# Altium footprint library КОТ-С.PcbLib: 65 footprints (part 4 of 5)
Each footprint in its own frame and in the unit in brackets; x right, y up, seen from the top. Pads: shape width x height; smd on the part's side, far side on the other; paste and mask are expansions set on the pad; w line width, h text height; cw(c..) or ccw(c..) is an arc to the next point about the centre after c.
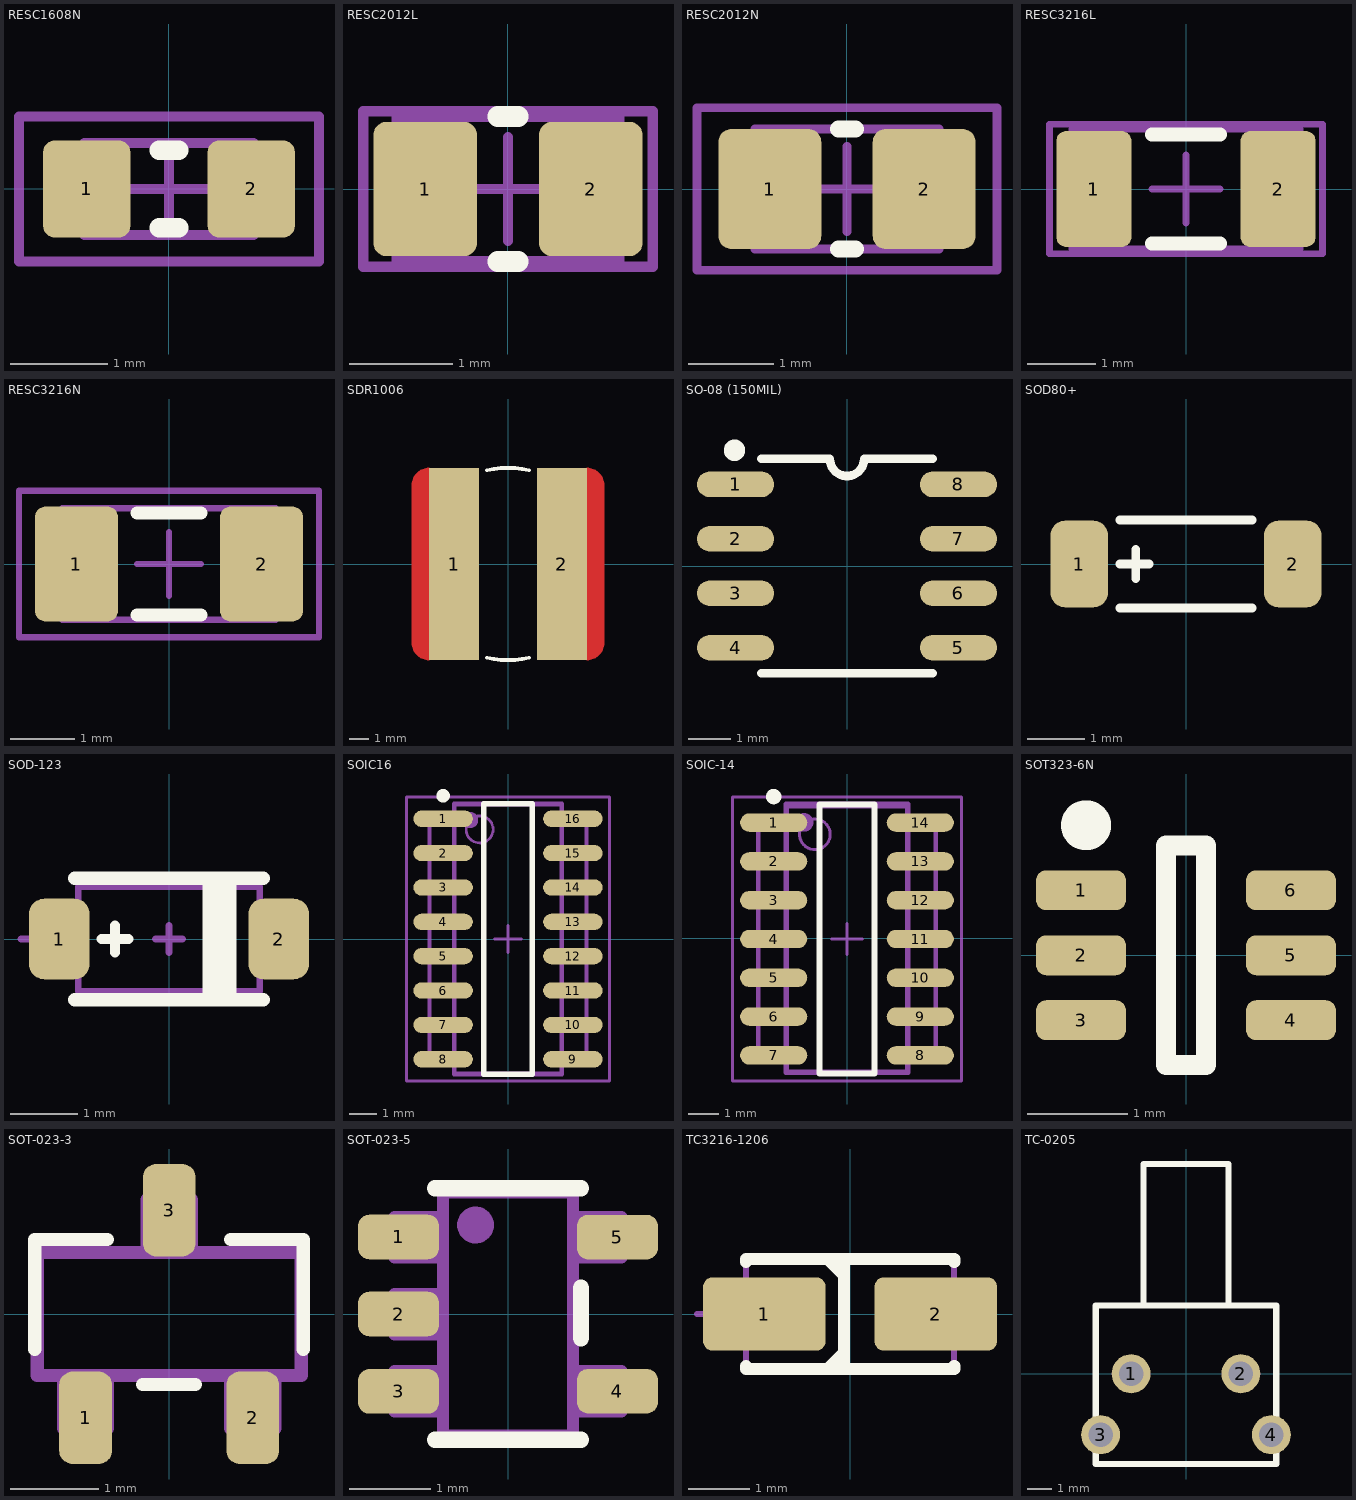
[diagram p3: the footprints below, top view; thin cyan lines are the x and y axes]

## RESC1608N [mm] "Chip Resistor, Body 1.6x0.8mm, IPC Medium Density"
height 0.6
pads (2):
  rrect25% 0.9x1 smd mask+0.075: 1(-0.85,0) 2(0.85,0)
Top Overlay:
  lines w0.2: -0.1,-0.4 0.1,-0.4 ; -0.1,0.4 0.1,0.4
Mechanical 5:
  lines w0.1: -0.875,-0.475 0.875,-0.475 0.875,0.475 -0.875,0.475 -0.875,-0.475
  text ".Designator" at -0.725,-0.175 h0.8
Mechanical 13:
  lines w0.1: -0.85,-0.475 0.85,-0.475 0.85,0.475 -0.85,0.475 -0.85,-0.475
Mechanical 15:
  lines w0.1: -0.475,0 0.475,0 ; 0,-0.475 0,0.475 ; -1.55,-0.75 1.55,-0.75 1.55,0.75 -1.55,0.75 -1.55,-0.75
3D body "RESC1608.STEP": height 0.5, standoff 0, extent -0.8,-0.4 0.8,0.4

## RESC2012L [mm] "Chip Resistor, Body 2.0x1.3mm, IPC High Density"
height 0.65
pads (2):
  rrect25% 1x1.3 smd mask+0.075: 1(-0.8,0) 2(0.8,0)
Top Overlay:
  lines w0.2: -0.1,-0.7 0.1,-0.7 ; -0.1,0.7 0.1,0.7
Mechanical 13:
  lines w0.1: -1.075,-0.7 1.075,-0.7 1.075,0.7 -1.075,0.7 -1.075,-0.7
Mechanical 15:
  lines w0.1: -0.5,0 0.5,0 ; 0,-0.5 0,0.5 ; -1.4,-0.75 1.4,-0.75 1.4,0.75 -1.4,0.75 -1.4,-0.75
3D body "RESC2012.STEP": height 0.5, standoff 0, extent -1,-0.6 1,0.6

## RESC2012N [mm] "Chip Resistor, Body 2.0x1.3mm, IPC Medium Density"
height 0.65
pads (2):
  rrect25% 1.2x1.4 smd mask+0.075: 1(-0.9,0) 2(0.9,0)
Top Overlay:
  lines w0.2: -0.1,-0.7 0.1,-0.7 ; -0.1,0.7 0.1,0.7
Mechanical 13:
  lines w0.1: -1.075,-0.7 1.075,-0.7 1.075,0.7 -1.075,0.7 -1.075,-0.7
Mechanical 15:
  lines w0.1: -0.5,0 0.5,0 ; 0,-0.5 0,0.5 ; -1.75,-0.95 1.75,-0.95 1.75,0.95 -1.75,0.95 -1.75,-0.95
3D body "RESC2012.STEP": height 0.5, standoff 0, extent -1,-0.6 1,0.6

## RESC3216L [mm] "Chip Resistor, Body 3.2x1.6mm, IPC High Density"
height 0.71
pads (2):
  rrect25% 1.1x1.7 smd mask+0.075: 1(-1.35,0) 2(1.35,0)
Top Overlay:
  lines w0.2: -0.5,-0.8 0.5,-0.8 ; -0.5,0.8 0.5,0.8
Mechanical 13:
  lines w0.1: -1.675,-0.875 -1.675,0.875 1.675,0.875 1.675,-0.875 -1.675,-0.875
Mechanical 15:
  lines w0.1: -0.5,0 0.5,0 ; 0,-0.5 0,0.5 ; -2,-0.95 -2,0.95 2,0.95 2,-0.95 -2,-0.95
3D body "RESC3216.STEP": height 0.6, standoff 0, extent -1.6,-0.8 1.6,0.8

## RESC3216N [mm] "Chip Resistor, Body 3.2x1.6mm, IPC Medium Density"
height 0.71
pads (2):
  rrect25% 1.3x1.8 smd mask+0.075: 1(-1.45,0) 2(1.45,0)
Top Overlay:
  lines w0.2: -0.5,-0.8 0.5,-0.8 ; -0.5,0.8 0.5,0.8
Mechanical 13:
  lines w0.1: -1.675,-0.875 -1.675,0.875 1.675,0.875 1.675,-0.875 -1.675,-0.875
Mechanical 15:
  lines w0.1: -0.5,0 0.5,0 ; 0,-0.5 0,0.5 ; -2.35,-1.15 -2.35,1.15 2.35,1.15 2.35,-1.15 -2.35,-1.15
3D body "RESC3216.STEP": height 0.6, standoff 0, extent -1.6,-0.8 1.6,0.8

## SDR1006 [mm]
pads (2):
  rect 2.6x10 smd paste-0.025: 1(-2.8,0) 2(2.8,0)
Top Layer:
  region: 4.1,5 4.189,5 4.363,4.965 4.526,4.898 4.674,4.799 4.799,4.674 4.898,4.526 4.965,4.363 5,4.189 5,4.1 5,-4.1 5,-4.189 4.965,-4.363 4.898,-4.526 4.799,-4.674 4.674,-4.799 4.526,-4.898 4.363,-4.965 4.189,-5 4.1,-5
  region: -4.1,5 -4.189,5 -4.363,4.965 -4.526,4.898 -4.674,4.799 -4.799,4.674 -4.898,4.526 -4.965,4.363 -5,4.189 -5,4.1 -5,-4.1 -5,-4.189 -4.965,-4.363 -4.898,-4.526 -4.799,-4.674 -4.674,-4.799 -4.526,-4.898 -4.363,-4.965 -4.189,-5 -4.1,-5
Top Overlay:
  lines w0.2: -1.095,-4.879 ccw(c0,0) 1.095,-4.879 ; -1.095,4.879 cw(c0,0) 1.095,4.879
Top Paste:
  region: 4.075,4.975 4.161,4.975 4.33,4.941 4.489,4.875 4.633,4.78 4.755,4.658 4.85,4.514 4.916,4.355 4.95,4.186 4.95,4.1 4.95,-4.1 4.95,-4.186 4.916,-4.355 4.85,-4.514 4.755,-4.658 4.633,-4.78 4.489,-4.875 4.33,-4.941 4.161,-4.975 4.075,-4.975
  region: -4.075,4.975 -4.161,4.975 -4.33,4.941 -4.489,4.875 -4.633,4.78 -4.755,4.658 -4.85,4.514 -4.916,4.355 -4.95,4.186 -4.95,4.1 -4.95,-4.1 -4.95,-4.186 -4.916,-4.355 -4.85,-4.514 -4.755,-4.658 -4.633,-4.78 -4.489,-4.875 -4.33,-4.941 -4.161,-4.975 -4.075,-4.975
Top Solder:
  region: 4.1,5.1 4.198,5.1 4.392,5.062 4.574,4.986 4.737,4.877 4.877,4.737 4.986,4.574 5.062,4.392 5.1,4.198 5.1,4.1 5.1,-4.1 5.1,-4.198 5.062,-4.392 4.986,-4.574 4.877,-4.737 4.737,-4.877 4.574,-4.986 4.392,-5.062 4.198,-5.1 4.1,-5.1
  region: -4.1,5.1 -4.198,5.1 -4.392,5.062 -4.574,4.986 -4.737,4.877 -4.877,4.737 -4.986,4.574 -5.062,4.392 -5.1,4.198 -5.1,4.1 -5.1,-4.1 -5.1,-4.198 -5.062,-4.392 -4.986,-4.574 -4.877,-4.737 -4.737,-4.877 -4.574,-4.986 -4.392,-5.062 -4.198,-5.1 -4.1,-5.1
3D body "SDR1006.stp": height 5.85, standoff 0.02, extent -4.9,-4.89 4.9,4.89

## SO-08 (150MIL) [mm]
pads (8):
  oval 1.8x0.6 smd: 1(-2.6,1.905) 2(-2.6,0.635) 3(-2.6,-0.635) 4(-2.6,-1.905) 5(2.6,-1.905) 6(2.6,-0.635) 7(2.6,0.635) 8(2.6,1.905)
Top Overlay:
  circle w0.25: c-2.625,2.7 r0.125
  lines w0.2: -2,-2.5 2,-2.5 ; -2,2.5 -0.4,2.5 ccw(c0,2.5) 0.4,2.5 2,2.5
3D body "SOIC127P600-8.STEP": height 1.7, standoff 0, extent -3,-2.54 3,2.54

## SOD80+ [mm]
pads (2):
  rrect50% 1x1.5 smd: 1(-1.85,0) 2(1.85,0)
Top Overlay:
  lines w0.15: -1.143,-0.762 1.143,-0.762 ; -1.143,0 -0.635,0 ; -1.143,0.762 1.143,0.762 ; -0.869,-0.254 -0.869,0.254
3D body "DO-213AC (SOD80) +.stp": height 1.49, standoff 0, extent -1.85,-0.749 1.85,0.749

## SOD-123 [mm] "SM LED; 2 Flat Leads"
height 1.3
pads (2):
  rrect50% 0.9x1.2 smd paste-0.025 mask+0.07: 1(-1.63,0) 2(1.63,0)
Top Overlay:
  region: 1,0.8 0.5,0.8 0.5,-0.8 1,-0.8
  lines w0.15: -1,0 -0.6,0 ; -0.8,-0.2 -0.8,0.2
  lines w0.2: -1.4,-0.9 1.4,-0.9 ; -1.4,0.9 1.4,0.9
Mechanical 1:
  lines w0.1: -0.2,0 0.2,0 ; 0,-0.2 0,0.2
Mechanical 5:
  lines w0.1: -2.2,0 -1.6,0 ; -1.9,-0.3 -1.9,0.3 ; -1.35,-0.775 1.35,-0.775 1.35,0.775 -1.35,0.775 -1.35,-0.775
  text ".Designator" at -1.1,-0.5 h1.6
3D body "User Library-SOD-123_DiodesInc.STEP": height 1.42, standoff -0.03, extent -1.925,-0.85 1.925,0.85

## SOIC16 [mm] "16-Pin Small Outline Integrated Circuit 1.27 mm Pitch, IPC Medium Density"
height 1.75
pads (16):
  oval 2.2x0.6 smd: 1(-2.4,4.445) 2(-2.4,3.175) 3(-2.4,1.905) 4(-2.4,0.635) 5(-2.4,-0.635) 6(-2.4,-1.905) 7(-2.4,-3.175) 8(-2.4,-4.445) 9(2.4,-4.445) 10(2.4,-3.175) 11(2.4,-1.905) 12(2.4,-0.635) 13(2.4,0.635) 14(2.4,1.905) 15(2.4,3.175) 16(2.4,4.445)
Top Overlay:
  circle w0.25: c-2.4,5.295 r0.125
  lines w0.2: -0.9,-5 0.9,-5 0.9,5 -0.9,5 -0.9,-5
Mechanical 5:
  circle w0.4: c-1.4,4.4 r0.1
  lines w0.15: -2,-4.6 -2.9,-4.6 -2.9,4.6 -2,4.6 ; 2,-4.6 2.9,-4.6 2.9,4.6 2,4.6 ; -2,-5 -2,5 2,5 2,-5 -2,-5
  text ".Designator" at -1.25,-0.375 h1.6
Mechanical 13:
  circle w0.1: c-1.05,4.05 r0.5
  lines w0.1: -1.95,-4.95 1.95,-4.95 1.95,4.95 -1.95,4.95 -1.95,-4.95
Mechanical 15:
  lines w0.1: -0.5,0 0.5,0 ; 0,-0.5 0,0.5 ; -3.75,-5.25 3.75,-5.25 3.75,5.25 -3.75,5.25 -3.75,-5.25
3D body: height 1.65, standoff 1.2, extent -1.323,3.85 -0.327,4.848
3D body "SOIC127P600-16.STEP": height 1.7, standoff 0, extent -3,-5.08 3,5.08

## SOIC-14 [mm] "14-Pin Small Outline Integrated Circuit 1.27 mm Pitch, IPC High Density"
height 1.75
pads (14):
  oval 2.2x0.6 smd: 1(-2.4,3.792) 2(-2.4,2.522) 3(-2.4,1.252) 4(-2.4,-0.018) 5(-2.4,-1.288) 6(-2.4,-2.558) 7(-2.4,-3.828) 8(2.4,-3.828) 9(2.4,-2.558) 10(2.4,-1.288) 11(2.4,-0.018) 12(2.4,1.252) 13(2.4,2.522) 14(2.4,3.792)
Top Overlay:
  circle w0.25: c-2.4,4.642 r0.125
  lines w0.2: -0.9,-4.418 0.9,-4.418 0.9,4.382 -0.9,4.382 -0.9,-4.418
Mechanical 5:
  circle w0.4: c-1.4,3.8 r0.1
  lines w0.15: -2,-4 -2.9,-4 -2.9,4 -2,4 ; 2,-4 2.9,-4 2.9,4 2,4 ; -2,-4.4 -2,4.4 2,4.4 2,-4.4 -2,-4.4
  text ".Designator" at -1.25,-0.375 h1.6
Mechanical 13:
  circle w0.1: c-1.05,3.407 r0.5
  lines w0.1: -1.95,-4.343 1.95,-4.343 1.95,4.307 -1.95,4.307 -1.95,-4.343
Mechanical 15:
  lines w0.1: -0.5,-0.018 0.5,-0.018 ; 0,-0.518 0,0.482 ; -3.75,-4.668 3.75,-4.668 3.75,4.632 -3.75,4.632 -3.75,-4.668
3D body "SOIC-14.stp": height 1.62, standoff 0.02, extent -3.023,-4.336 3.023,4.3

## SOT323-6N [mm] "SOT363, 6-Leads, Body 2x1.3mm, Pitch 0.65mm, Lead Span 2.1mm, IPC Medium Density"
height 1
pads (6):
  rrect50% 0.9x0.4 smd paste-0.05 mask+0.05: 1(-1.05,0.65) 2(-1.05,0) 3(-1.05,-0.65) 4(1.05,-0.65) 5(1.05,0) 6(1.05,0.65)
Top Overlay:
  circle w0.25: c-1,1.3 r0.125
  lines w0.2: -0.2,-1.1 0.2,-1.1 0.2,1.1 -0.2,1.1 -0.2,-1.1
3D body "DCK0006A.stp": height 0.94, standoff -0.01, extent -1.14,-1 1.14,1

## SOT-023-3 [mm]
pads (3):
  rrect50% 0.6x1.05 smd paste-0.025 mask+0.07: 1(-0.95,-1.18) 2(0.95,-1.18) 3(0,1.18)
Top Overlay:
  lines w0.15: -1.528,-0.4 -1.528,0.847 -0.7,0.847 ; -0.3,-0.8 0.3,-0.8 ; 0.7,0.847 1.522,0.847 1.523,-0.4
Mechanical 5:
  lines w0.15: -1.2,-0.7 -1.2,-1.3 -0.7,-1.3 -0.7,-0.7 ; -0.25,0.7 -0.25,1.3 0.25,1.3 0.25,0.7 ; 0.7,-0.7 0.7,-1.3 1.2,-1.3 1.2,-0.7 ; -1.5,-0.7 1.5,-0.7 1.5,0.7 -1.5,0.7 -1.5,-0.7
  text ".Designator" at -1,-0.3 h1.2
3D body "SOT-023.stp": height 1.12, standoff 0.02, extent -1.503,-1.203 1.497,1.297

## SOT-023-5 [mm]
pads (5):
  rrect50% 1x0.55 smd mask+0.07: 1(-1.35,0.953) 2(-1.35,0.002) 3(-1.35,-0.953) 4(1.35,-0.95) 5(1.35,0.951)
Top Overlay:
  lines w0.2: -0.9,-1.548 0.9,-1.548 ; -0.9,1.552 0.9,1.552 ; 0.9,-0.298 0.9,0.327
Mechanical 5:
  circle w0.254: c-0.4,1.1 r0.1
  lines w0.15: -0.8,-1.2 -1.4,-1.2 -1.4,-0.7 -0.8,-0.7 ; -0.8,-0.25 -1.4,-0.25 -1.4,0.25 -0.8,0.25 ; -0.8,0.7 -1.4,0.7 -1.4,1.2 -0.8,1.2 ; 0.8,-1.2 1.4,-1.2 1.4,-0.7 0.8,-0.7 ; 0.8,0.7 1.4,0.7 1.4,1.2 0.8,1.2 ; -0.8,-1.5 0.8,-1.5 0.8,1.5 -0.8,1.5 -0.8,-1.5
  text ".Designator" at -0.275,0.725 h1.2
3D body "SOT-23-5.STEP": height 1.1, standoff 0, extent -1.42,-1.5 1.42,1.5

## TC3216-1206 [mm] "Capacitor, SM Tantalum; Body 3.2 x 1.6 mm (LxW typ)"
height 2.2
pads (2):
  rrect25% 2x1.2 smd mask+0.075: 1(-1.4,0) 2(1.4,0)
Top Overlay:
  region: -0.5,-0.9 -0.1,-0.9 -0.1,-0.5
  region: -0.5,0.9 -0.1,0.9 -0.1,0.5
  lines w0.2: -1.7,-0.85 -1.7,-0.9 1.7,-0.9 1.7,-0.85 ; -1.7,0.85 -1.7,0.9 1.7,0.9 1.7,0.85 ; -0.1,-0.9 -0.1,0.9
Mechanical 5:
  lines w0.1: -2.5,0 -1.9,0 ; -2.2,-0.3 -2.2,0.3 ; -1.7,-0.9 -1.7,0.9 1.7,0.9 1.7,-0.9 -1.7,-0.9
  text ".Designator" at -1.475,-0.375 h1.6
3D body "TC3216-18.STEP": height 1.8, standoff 0, extent -1.6,-0.8 1.6,0.8

## TC-0205 [mm]
pads (4):
  round 1.6 hole 1 mask-25.4: 1(-2.25,0) 2(2.25,0) 3(-3.5,-2.5) 4(3.5,-2.5)
Top Overlay:
  lines w0.25: -1.75,2.8 -1.75,8.6 1.75,8.6 1.75,2.8 ; -3.7,-3.7 -3.7,2.8 3.7,2.8 3.7,-3.7 -3.7,-3.7
Top Solder:
  region: -3.5,-1.592 -3.735,-1.623 -3.954,-1.714 -4.142,-1.858 -4.286,-2.046 -4.377,-2.265 -4.408,-2.5 -4.377,-2.735 -4.286,-2.954 -4.142,-3.142 -3.954,-3.286 -3.735,-3.377 -3.5,-3.408 -3.265,-3.377 -3.046,-3.286 -2.858,-3.142 -2.714,-2.954 -2.623,-2.735 -2.592,-2.5 -2.623,-2.265 -2.714,-2.046 -2.858,-1.858 -3.046,-1.714 -3.265,-1.623
  region: 3.5,-1.592 3.265,-1.623 3.046,-1.714 2.858,-1.858 2.714,-2.046 2.623,-2.265 2.592,-2.5 2.623,-2.735 2.714,-2.954 2.858,-3.142 3.046,-3.286 3.265,-3.377 3.5,-3.408 3.735,-3.377 3.954,-3.286 4.142,-3.142 4.286,-2.954 4.377,-2.735 4.408,-2.5 4.377,-2.265 4.286,-2.046 4.142,-1.858 3.954,-1.714 3.735,-1.623
  region: -2.25,0.908 -2.485,0.877 -2.704,0.786 -2.892,0.642 -3.036,0.454 -3.127,0.235 -3.158,0 -3.127,-0.235 -3.036,-0.454 -2.892,-0.642 -2.704,-0.786 -2.485,-0.877 -2.25,-0.908 -2.015,-0.877 -1.796,-0.786 -1.608,-0.642 -1.464,-0.454 -1.373,-0.235 -1.342,0 -1.373,0.235 -1.464,0.454 -1.608,0.642 -1.796,0.786 -2.015,0.877
  region: 2.25,0.908 2.015,0.877 1.796,0.786 1.608,0.642 1.464,0.454 1.373,0.235 1.342,0 1.373,-0.235 1.464,-0.454 1.608,-0.642 1.796,-0.786 2.015,-0.877 2.25,-0.908 2.485,-0.877 2.704,-0.786 2.892,-0.642 3.036,-0.454 3.127,-0.235 3.158,0 3.127,0.235 3.036,0.454 2.892,0.642 2.704,0.786 2.485,0.877
Bottom Solder:
  region: -3.5,-1.592 -3.735,-1.623 -3.954,-1.714 -4.142,-1.858 -4.286,-2.046 -4.377,-2.265 -4.408,-2.5 -4.377,-2.735 -4.286,-2.954 -4.142,-3.142 -3.954,-3.286 -3.735,-3.377 -3.5,-3.408 -3.265,-3.377 -3.046,-3.286 -2.858,-3.142 -2.714,-2.954 -2.623,-2.735 -2.592,-2.5 -2.623,-2.265 -2.714,-2.046 -2.858,-1.858 -3.046,-1.714 -3.265,-1.623
  region: 3.5,-1.592 3.265,-1.623 3.046,-1.714 2.858,-1.858 2.714,-2.046 2.623,-2.265 2.592,-2.5 2.623,-2.735 2.714,-2.954 2.858,-3.142 3.046,-3.286 3.265,-3.377 3.5,-3.408 3.735,-3.377 3.954,-3.286 4.142,-3.142 4.286,-2.954 4.377,-2.735 4.408,-2.5 4.377,-2.265 4.286,-2.046 4.142,-1.858 3.954,-1.714 3.735,-1.623
  region: -2.25,0.908 -2.485,0.877 -2.704,0.786 -2.892,0.642 -3.036,0.454 -3.127,0.235 -3.158,0 -3.127,-0.235 -3.036,-0.454 -2.892,-0.642 -2.704,-0.786 -2.485,-0.877 -2.25,-0.908 -2.015,-0.877 -1.796,-0.786 -1.608,-0.642 -1.464,-0.454 -1.373,-0.235 -1.342,0 -1.373,0.235 -1.464,0.454 -1.608,0.642 -1.796,0.786 -2.015,0.877
  region: 2.25,0.908 2.015,0.877 1.796,0.786 1.608,0.642 1.464,0.454 1.373,0.235 1.342,0 1.373,-0.235 1.464,-0.454 1.608,-0.642 1.796,-0.786 2.015,-0.877 2.25,-0.908 2.485,-0.877 2.704,-0.786 2.892,-0.642 3.036,-0.454 3.127,-0.235 3.158,0 3.127,0.235 3.036,0.454 2.892,0.642 2.704,0.786 2.485,0.877
3D body "TC-0205.stp": height 7.12, standoff -3.48, extent -4.25,-4.05 4.25,8.3